# EAGLE library part MAX9918ASA+T (library MAX9918ASA_T)
None
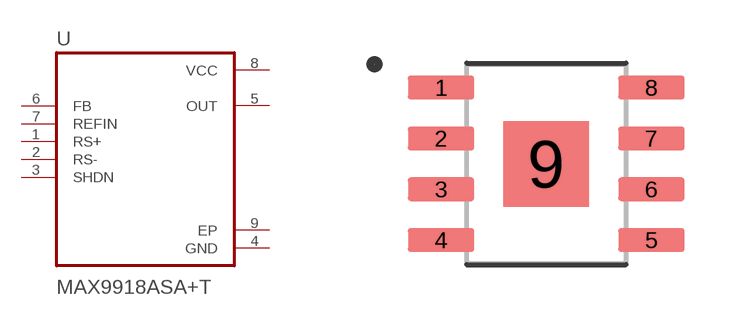
[diagram p0: symbol with the pads of SOIC127P600X168-8N; footprint SOIC127P600X168-8N]

Designator prefix U

## MAX9918ASA+T (Description: SP Amp Current Sense Amp Single R-R O/P 5.5V 8-Pin SOIC EP T/R; Digi-Key_Part_Number: MAX9918ASA+TTR-ND; MF: Maxim Integrated Products; MP: MAX9918ASA+T; Package: None; Purchase-URL: https://pricing.snapeda.com/search/part/MAX9918ASA+T/?ref=eda)  [SOIC127P600X168-8N]
1  RS+  in
2  RS-  in
3  SHDN  in
4  GND  pwr
5  OUT  out
6  FB  in
7  REFIN  in
8  VCC  pwr
9  EP  pwr

## Footprint SOIC127P600X168-8N (pad centres in mm)
smd 1.66 x 0.59: 1 -2.63,1.905; 2 -2.63,0.635; 3 -2.63,-0.635; 4 -2.63,-1.905; 5 2.63,-1.905; 6 2.63,-0.635; 7 2.63,0.635; 8 2.63,1.905
smd 2.135 x 2.135: 9 0,0